# Altium schematic symbol library SI4703_eval_board.SchLib: 2 symbols
Pins are listed as number, name and electrical type; pins without a type are passive.

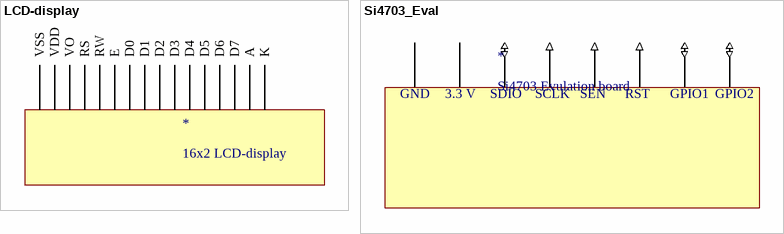
[diagram p0: symbols LCD-display to Si4703_Eval]

## LCD-display
designator *, comment 16x2 LCD-display
pins: 1 VSS (power), 2 VDD (power), 3 VO (power), 4 RS (power), 5 RW (power), 6 E (power), 7 D0 (power), 8 D1 (power), 9 D2 (power), 10 D3 (power), 11 D4 (power), 12 D5 (power), 13 D6 (power), 14 D7 (power), 15 A (power), 16 K (power)

## Si4703_Eval
designator *, comment Si4703 Evulation board
pins: 1 GND (power), 2 3.3V (power), 3 SDIO (io), 4 SCLK (in), 5 SEN (in), 6 RST (in), 7 GPIO1 (io), 8 GPIO2 (io)
text: 3.3 V